# EAGLE library part 268-5401-00-1102JH (library con-3m)
Zero Insertion Force Socked Source: http://www.3M.com/ehpd
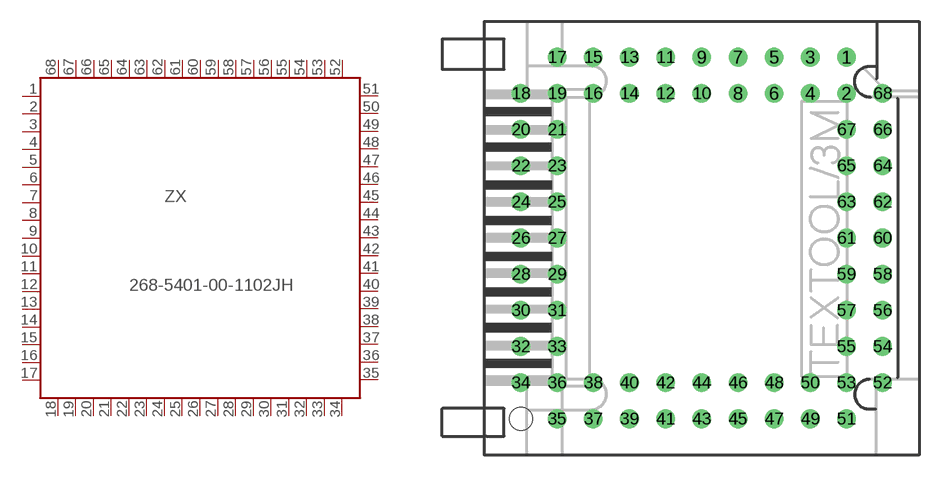
[diagram p16: symbol with the pads of 268-5401-00-1102JH; footprint 268-5401-00-1102JH]

Designator prefix ZX

## 268-5401-00-1102JH (MPN: 268-5401-00-1102JH; OC_FARNELL: unknown; OC_NEWARK: 42M9902)  [268-5401-00-1102JH]
1  1  pas
2  2  pas
3  3  pas
4  4  pas
5  5  pas
6  6  pas
7  7  pas
8  8  pas
9  9  pas
10  10  pas
11  11  pas
12  12  pas
13  13  pas
14  14  pas
15  15  pas
16  16  pas
17  17  pas
18  18  pas
19  19  pas
20  20  pas
21  21  pas
22  22  pas
23  23  pas
24  24  pas
25  25  pas
26  26  pas
27  27  pas
28  28  pas
29  29  pas
30  30  pas
31  31  pas
32  32  pas
33  33  pas
34  34  pas
35  35  pas
36  36  pas
37  37  pas
38  38  pas
39  39  pas
40  40  pas
41  41  pas
42  42  pas
43  43  pas
44  44  pas
45  45  pas
46  46  pas
47  47  pas
48  48  pas
49  49  pas
50  50  pas
51  51  pas
52  52  pas
53  53  pas
54  54  pas
55  55  pas
56  56  pas
57  57  pas
58  58  pas
59  59  pas
60  60  pas
61  61  pas
62  62  pas
63  63  pas
64  64  pas
65  65  pas
66  66  pas
67  67  pas
68  68  pas

## Footprint 268-5401-00-1102JH (pad centres in mm)
OEM LCC Sockets 68 pol. Farnell Best. Nr. 4665417 Source: http://www.3M.com/ehpd
drill 0.8 pad 1.27 round: 1 10.16,12.7; 2 10.16,10.16; 3 7.62,12.7; 4 7.62,10.16; 5 5.08,12.7; 6 5.08,10.16; 7 2.54,12.7; 8 2.54,10.16; 9 0,12.7; 10 0,10.16; 11 -2.54,12.7; 12 -2.54,10.16; 13 -5.08,12.7; 14 -5.08,10.16; 15 -7.62,12.7; 16 -7.62,10.16; 17 -10.16,12.7; 18 -12.7,10.16; 19 -10.16,10.16; 20 -12.7,7.62; 21 -10.16,7.62; 22 -12.7,5.08; 23 -10.16,5.08; 24 -12.7,2.54; 25 -10.16,2.54; 26 -12.7,0; 27 -10.16,0; 28 -12.7,-2.54; 29 -10.16,-2.54; 30 -12.7,-5.08; 31 -10.16,-5.08; 32 -12.7,-7.62; 33 -10.16,-7.62; 34 -12.7,-10.16; 35 -10.16,-12.7; 36 -10.16,-10.16; 37 -7.62,-12.7; 38 -7.62,-10.16; 39 -5.08,-12.7; 40 -5.08,-10.16; 41 -2.54,-12.7; 42 -2.54,-10.16; 43 0,-12.7; 44 0,-10.16; 45 2.54,-12.7; 46 2.54,-10.16; 47 5.08,-12.7; 48 5.08,-10.16; 49 7.62,-12.7; 50 7.62,-10.16; 51 10.16,-12.7; 52 12.7,-10.16; 53 10.16,-10.16; 54 12.7,-7.62; 55 10.16,-7.62; 56 12.7,-5.08; 57 10.16,-5.08; 58 12.7,-2.54; 59 10.16,-2.54; 60 12.7,0; 61 10.16,0; 62 12.7,2.54; 63 10.16,2.54; 64 12.7,5.08; 65 10.16,5.08; 66 12.7,7.62; 67 10.16,7.62; 68 12.7,10.16
hole 1.6 at -12.7,-12.7